# Altium integrated library W25Q32FVSSIG.IntLib: 1 symbol
Pins are listed as number, name and electrical type; pins without a type are passive.

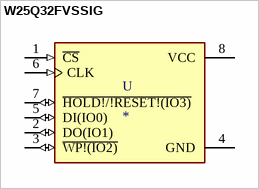
[diagram p0: symbol W25Q32FVSSIG]

## W25Q32FVSSIG
designator U
FLASH - NOR Memory IC 32Mb _4M x 8_ SPI - Quad I/O, QPI 104MHz 8-SOIC; MF: Winbond; MP: W25Q32FVSSIG; Availability: Unavailable; Price: None; Package: SOIC-8 Winbond; Value: *; SnapEDA_Link: https://www.snapeda.com/parts/W25Q32FVSSIG/Winbond%20Electronics/view-part/422928/?ref=snap
footprint SOIC127P790X216-8N
pins: 1 ~{CS} (in), 2 DO(IO1) (io), 3 ~{WP!(IO2)} (io), 4 GND (power), 5 DI(IO0) (io), 6 CLK (in), 7 ~{HOLD!/!RESET!(IO3)} (io), 8 VCC (power)